# EAGLE library part TSL238 (library awqua_eagle_library)
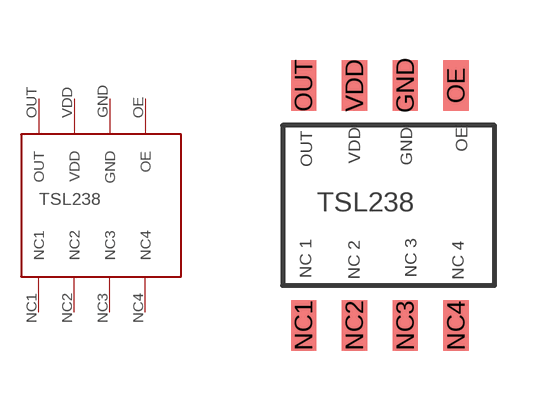
[diagram p21: symbol with the pads of TSL238; footprint TSL238]

Designator prefix -

## TSL238  [TSL238]
GND  GND
NC1  NC1
NC2  NC2
NC3  NC3
NC4  NC4
OE  OE
OUT  OUT
VDD  VDD

## Footprint TSL238 (pad centres in mm)
smd 0.635 x 1.27: GND 2.23,3.19; NC1 -0.31,-2.81; NC2 0.96,-2.81; NC3 2.23,-2.81; NC4 3.5,-2.81; OE 3.5,3.19; OUT -0.31,3.19; VDD 0.96,3.19